# Altium footprint library D 电容.PCBLIB: 81 footprints (part 5 of 6)
Each footprint in its own frame and in the unit in brackets; x right, y up, seen from the top. Pads: shape width x height; smd on the part's side, far side on the other; paste and mask are expansions set on the pad; w line width, h text height; cw(c..) or ccw(c..) is an arc to the next point about the centre after c.
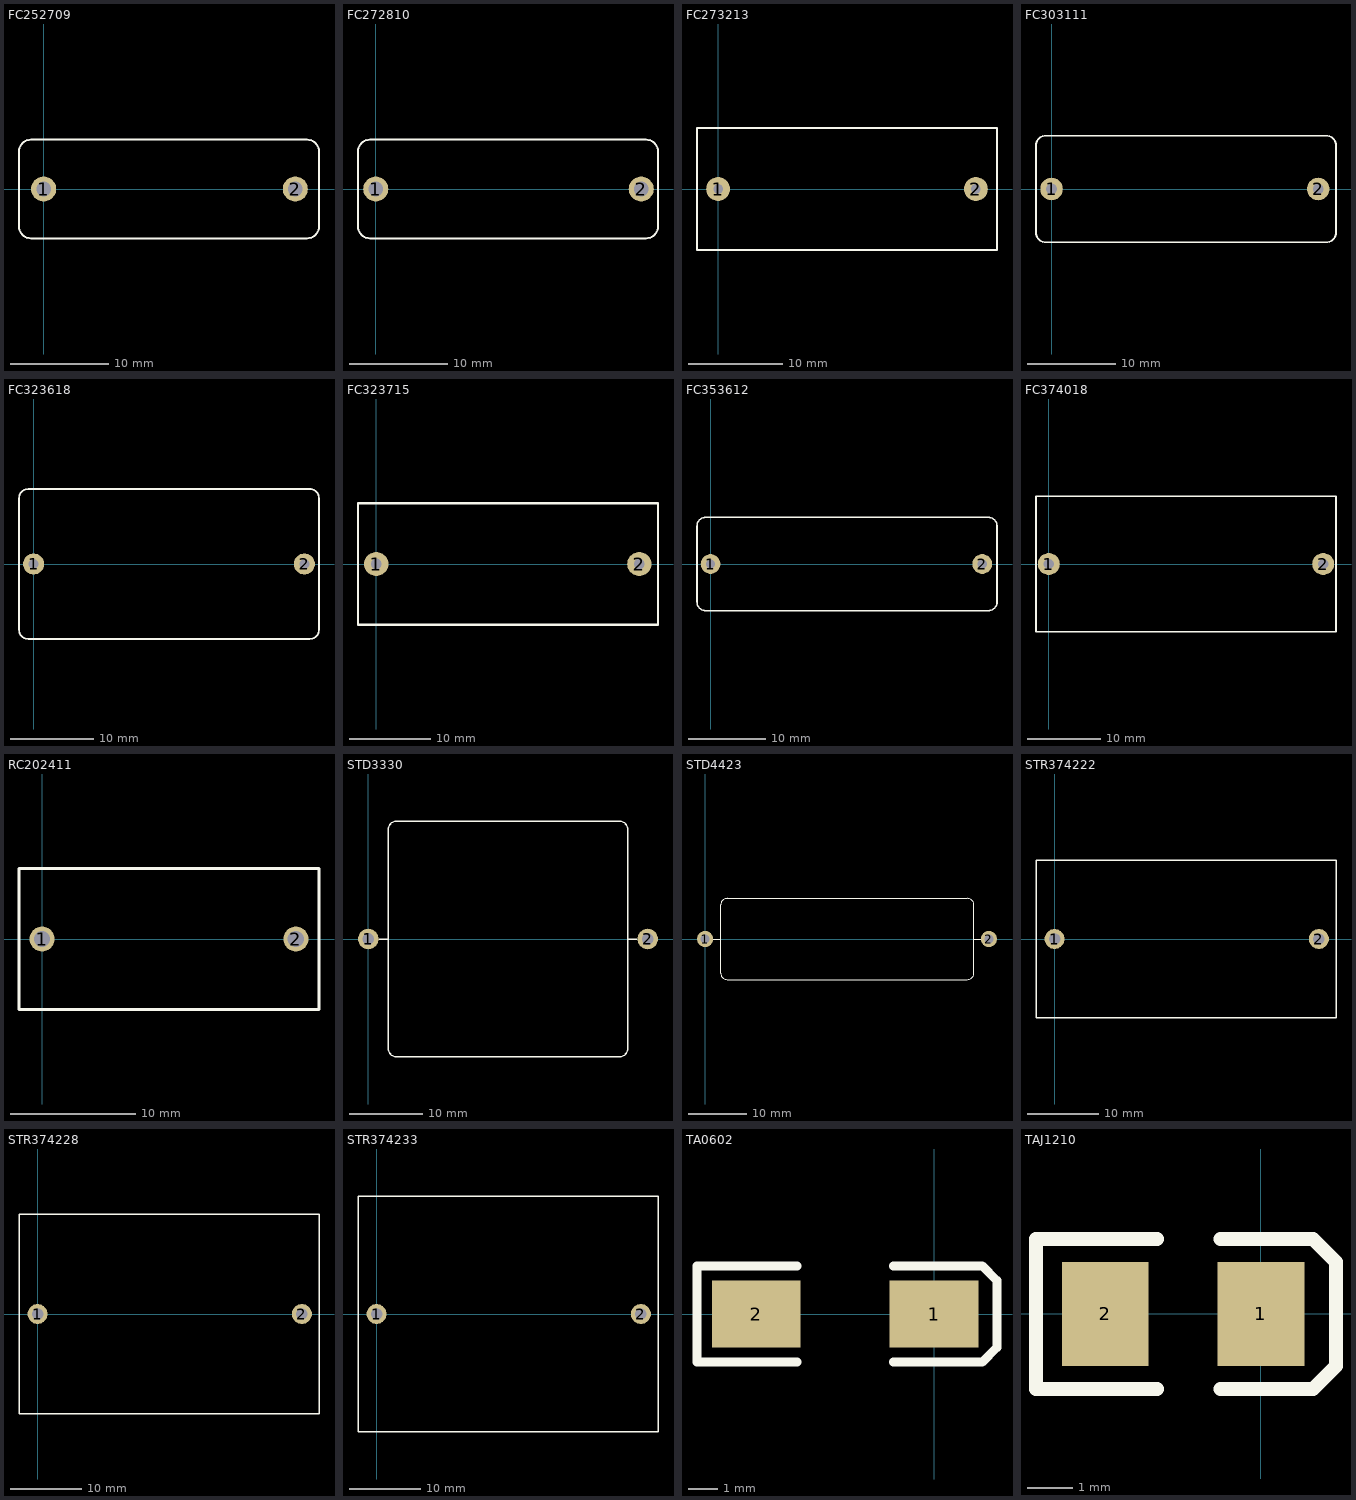
[diagram p4: the footprints below, top view; thin cyan lines are the x and y axes]

## FC252709 [mm] "薄膜电容/脚距25.5mm/长27mm/宽9mm/高11mm"
height 11
pads (2):
  round 2.54 hole 1.5: 1(0,0) 2(25.5,0)
Top Overlay:
  lines w0.203: -0.6,-5 26.2,-5 ; 3.7,-5 -1.3,-5 cw(c-1.3,-3.8) -2.5,-3.8 -2.5,3.8 cw(c-1.3,3.8) -1.3,5 2.3,5 26.7,5 ; 24.4,5 26.7,5 ; 24.6,-5 26.7,-5 ccw(c26.7,-3.8) 27.9,-3.8 27.9,3.8 ccw(c26.7,3.8) 26.7,5

## FC272810 [mm] "薄膜电容/脚距27mm/长28mm/宽10mm/高20mm"
height 20
pads (2):
  round 2.54 hole 1.5: 1(0,0) 2(26.9,0)
Top Overlay:
  lines w0.203: 0.1,-5 26.9,-5 ; 4.4,-5 -0.6,-5 cw(c-0.6,-3.8) -1.8,-3.8 -1.8,3.8 cw(c-0.6,3.8) -0.6,5 3,5 27.4,5 ; 25.1,5 27.4,5 ; 25.3,-5 27.4,-5 ccw(c27.4,-3.8) 28.6,-3.8 28.6,3.8 ccw(c27.4,3.8) 27.4,5

## FC273213 [mil] "薄膜电容/脚距27mm/长32mm/宽13mm/高22mm"
height 866.14
pads (2):
  round 100 hole 40: 1(0,0) 2(1082.68,0)
Top Overlay:
  lines w8: -88.58,-255.91 -88.58,255.91 1171.26,255.91 1171.26,-255.91 -88.58,-255.91

## FC303111 [mm] "薄膜电容/脚距30mm/长31mm/宽11mm/高20mm"
height 20
pads (2):
  round 2.54 hole 1.2: 1(0,0) 2(30,0)
Top Overlay:
  lines w0.203: 30.9,-6 ccw(c30.9,-4.9) 32,-4.9 32,4.9 ccw(c30.9,4.9) 30.9,6 ; 31,-6 -0.65,-6 cw(c-0.65,-4.9) -1.75,-4.9 -1.75,4.9 cw(c-0.65,4.9) -0.65,6 31,6

## FC323618 [mm] "薄膜电容/脚距32.5mm/长38mm/宽18mm/高33mm"
height 33
pads (2):
  round 2.54 hole 1.2: 1(0,0) 2(32.5,0)
Top Overlay:
  lines w0.203: 1.1,9 -0.65,9 ; 33.15,9 cw(c33.15,7.9) 34.25,7.9 34.25,-7.9 cw(c33.15,-7.9) 33.15,-9 -0.65,-9 cw(c-0.65,-7.9) -1.75,-7.9 -1.75,7.9 cw(c-0.65,7.9) -0.65,9 ; 33.3,9 -0.65,9

## FC323715 [mm] "薄膜电容/脚距32mm/长37mm/宽15mm/高25mm"
height 25
pads (2):
  round 3 hole 1.3: 1(0,0) 2(32.5,0)
Top Overlay:
  lines w0.254: 34.75,-7.5 -2.25,-7.5 -2.25,7.5 34.75,7.5 ; 34.798,-7.5 34.798,7.5

## FC353612 [mm] "薄膜电容/脚距35mm/长36mm/宽12mm/高22mm"
height 22
pads (2):
  round 2.54 hole 1.2: 1(0,0) 2(35,0)
Top Overlay:
  lines w0.203: -0.65,6 ccw(c-0.65,4.9) -1.75,4.9 -1.75,-4.9 ccw(c-0.65,-4.9) -0.65,-6 35.8,-6 ccw(c35.8,-4.9) 36.9,-4.9 ; -0.6,6 35.8,6 cw(c35.8,4.9) 36.9,4.9 ; 36.9,-5.1 36.9,5

## FC374018 [mm] "薄膜电容/脚距37mm/长40mm/宽18mm/高33.5mm"
height 33.5
pads (2):
  round 3 hole 1.4: 1(0,0) 2(37.5,0)
Top Overlay:
  lines w0.254: -1.75,-9.25 -1.75,9.25 39.25,9.25 39.25,-9.25 -1.75,-9.25

## RC202411 [mm] "EVOX RIFA电容/脚距20.3mm/长24mm/宽11.3mm/高16.5mm"
height 14
pads (2):
  round 2 hole 1.3: 1(0,0) 2(20.3,0)
Top Overlay:
  lines w0.254: -1.85,-5.65 22.15,-5.65 22.15,5.65 -1.85,5.65 -1.85,-5.65

## STD3330 [mm] "EACO薄膜电容STD系列，长33mm，宽30mm，高17mm"
height 17
pads (2):
  round 2.8 hole 1.6: 1(0,0) 2(38,0)
Top Overlay:
  lines w0.203: 1.4,0 2.7,0 ; 3.7,16 34.3,16 ; 3.8,16 ccw(c3.8,14.9) 2.7,14.9 2.7,-14.9 ccw(c3.8,-14.9) 3.8,-16 34.2,-16 ccw(c34.2,-14.9) 35.3,-14.9 ; 34.2,16 cw(c34.2,14.9) 35.3,14.9 35.3,-15 ; 35.4,0 36.5,0

## STD4423 [mm] "EACO薄膜电容STD系列，长44mm，宽23mm，高14mm"
height 14
pads (2):
  round 2.8 hole 1.6: 1(0,0) 2(49,0)
Top Overlay:
  lines w0.203: 1.4,0 2.7,0 ; 3.7,7 45.3,7 cw(c45.3,5.9) 46.4,5.9 ; 3.8,7 ccw(c3.8,5.9) 2.7,5.9 2.7,-5.9 ccw(c3.8,-5.9) 3.8,-7 45.3,-7 ccw(c45.3,-5.9) 46.4,-5.9 46.4,6 ; 46.5,0 47.6,0

## STR374222 [mm] "EACO薄膜电容STR系列，间距37mm，长42mm，宽22mm，高30mm"
height 30
pads (2):
  round 2.8 hole 1.6: 1(0,0) 2(37,0)
Top Overlay:
  lines w0.203: -2.6,-11 -2.6,11 39.4,11 39.4,-11 -2.6,-11

## STR374228 [mm] "EACO薄膜电容STR系列，间距37mm，长42mm，宽28mm，高37mm"
height 37
pads (2):
  round 2.8 hole 1.6: 1(0,0) 2(37,0)
Top Overlay:
  lines w0.203: -2.6,-14 39.4,-14 39.4,14 -2.6,14 -2.6,-14

## STR374233 [mm] "EACO薄膜电容STR系列，间距37mm，长42mm，宽33mm，高45mm"
height 45
pads (2):
  round 2.8 hole 1.6: 1(0,0) 2(37,0)
Top Overlay:
  lines w0.203: -2.6,-16.5 -2.6,16.5 39.4,16.5 39.4,-16.5 -2.6,-16.5

## TA0602 [mil] "TA钽电容贴片，间距6mm，宽2mm"
pads (2):
  rect 120x90 smd: 1(0,0) 2(-240,0)
Top Overlay:
  lines w12: -185,-65 -320,-65 -320,65 -185,65 ; -55,-65 65,-65 85,-45 85,45 65,65 -55,65

## TAJ1210 [mil] "钽电容，长3.5mm，宽2.8mm，高1.9mm"
pads (2):
  rect 75x90 smd: 1(0,0) 2(-135,0)
Top Overlay:
  lines w12: -90,-65 -195,-65 -195,65 -90,65 ; -35,-65 45,-65 65,-45 65,45 45,65 -35,65